# Altium schematic symbol library SCH - POWER - SWITCHMODE - TI TPS40200-EP_D_8.SchLib: 1 symbol
Pins are listed as number, name and electrical type; pins without a type are passive.

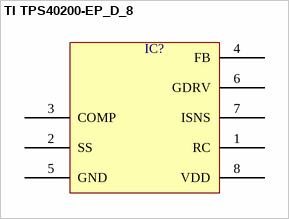
[diagram p0: symbol TI TPS40200-EP_D_8]

## TI TPS40200-EP_D_8
designator IC?  (value not drawn)
pins: 1 RC, 2 SS, 3 COMP, 4 FB, 5 GND, 6 GDRV, 7 ISNS, 8 VDD